# Altium footprint library NXP Semiconductors Cortex-M0.PcbLib: 22 footprints (part 2 of 2)
Each footprint in its own frame and in the unit in brackets; x right, y up, seen from the top. Pads: shape width x height; smd on the part's side, far side on the other; paste and mask are expansions set on the pad; w line width, h text height; cw(c..) or ccw(c..) is an arc to the next point about the centre after c.
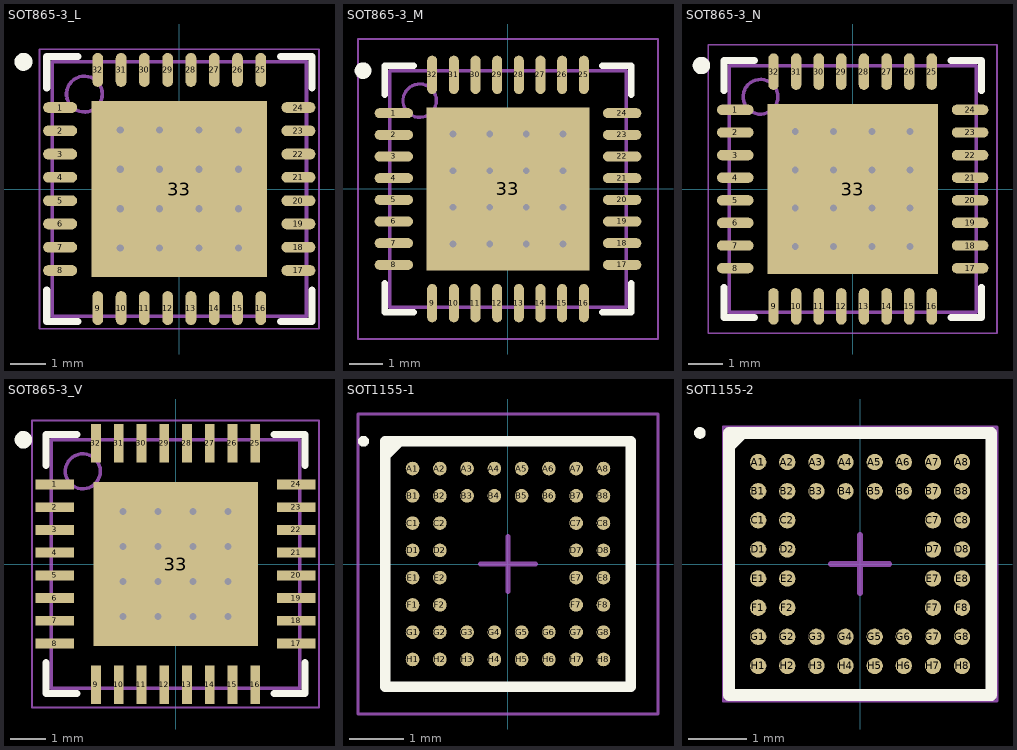
[diagram p1: the footprints below, top view; thin cyan lines are the x and y axes]

## SOT865-3_L [mm] "QFN, 32-Leads, Body 7x7mm, Pitch 0.65mm, Thermal Pad 4.9x4.9mm, IPC High Density"
height 1
pads (33):
  oval 0.95x0.3 smd: 1(-3.325,2.275) 2(-3.325,1.625) 3(-3.325,0.975) 4(-3.325,0.325) 5(-3.325,-0.325) 6(-3.325,-0.975) 7(-3.325,-1.625) 8(-3.325,-2.275) 17(3.325,-2.275) 18(3.325,-1.625) 19(3.325,-0.975) 20(3.325,-0.325) 21(3.325,0.325) 22(3.325,0.975) 23(3.325,1.625) 24(3.325,2.275)
  oval 0.3x0.95 smd: 9(-2.275,-3.325) 10(-1.625,-3.325) 11(-0.975,-3.325) 12(-0.325,-3.325) 13(0.325,-3.325) 14(0.975,-3.325) 15(1.625,-3.325) 16(2.275,-3.325) 25(2.275,3.325) 26(1.625,3.325) 27(0.975,3.325) 28(0.325,3.325) 29(-0.325,3.325) 30(-0.975,3.325) 31(-1.625,3.325) 32(-2.275,3.325)
  rect 4.9x4.9 smd: 33(0,0)
via -1.65,1.65 diameter 0.5 hole 0.2
via -0.55,1.65 diameter 0.5 hole 0.2
via 0.55,1.65 diameter 0.5 hole 0.2
via 1.65,1.65 diameter 0.5 hole 0.2
via -1.65,0.55 diameter 0.5 hole 0.2
via -0.55,0.55 diameter 0.5 hole 0.2
via 0.55,0.55 diameter 0.5 hole 0.2
via 1.65,0.55 diameter 0.5 hole 0.2
via -1.65,-0.55 diameter 0.5 hole 0.2
via -0.55,-0.55 diameter 0.5 hole 0.2
via 0.55,-0.55 diameter 0.5 hole 0.2
via 1.65,-0.55 diameter 0.5 hole 0.2
via -1.65,-1.65 diameter 0.5 hole 0.2
via -0.55,-1.65 diameter 0.5 hole 0.2
via 0.55,-1.65 diameter 0.5 hole 0.2
via 1.65,-1.65 diameter 0.5 hole 0.2
Top Overlay:
  circle w0.25: c-4.35,3.55 r0.125
  lines w0.2: -3.7,-2.825 -3.7,-3.7 -2.825,-3.7 ; -3.7,2.825 -3.7,3.7 -2.825,3.7 ; 2.825,-3.7 3.7,-3.7 3.7,-2.825 ; 2.825,3.7 3.7,3.7 3.7,2.825
Mechanical 13:
  circle w0.1: c-2.65,2.65 r0.5
  lines w0.1: -3.55,-3.55 -3.55,3.55 3.55,3.55 3.55,-3.55 -3.55,-3.55
Mechanical 15:
  lines w0.05: -3.9,-3.9 -3.9,3.9 3.9,3.9 3.9,-3.9 -3.9,-3.9
  lines w0.1: -0.5,0 0.5,0 ; 0,-0.5 0,0.5
3D body: height 1, standoff 0, extent -3.55,-3.55 3.55,3.55

## SOT865-3_M [mm] "QFN, 32-Leads, Body 7x7mm, Pitch 0.65mm, Thermal Pad 4.9x4.9mm, IPC Low Density"
height 1
pads (33):
  oval 1.15x0.3 smd: 1(-3.425,2.275) 2(-3.425,1.625) 3(-3.425,0.975) 4(-3.425,0.325) 5(-3.425,-0.325) 6(-3.425,-0.975) 7(-3.425,-1.625) 8(-3.425,-2.275) 17(3.425,-2.275) 18(3.425,-1.625) 19(3.425,-0.975) 20(3.425,-0.325) 21(3.425,0.325) 22(3.425,0.975) 23(3.425,1.625) 24(3.425,2.275)
  oval 0.3x1.15 smd: 9(-2.275,-3.425) 10(-1.625,-3.425) 11(-0.975,-3.425) 12(-0.325,-3.425) 13(0.325,-3.425) 14(0.975,-3.425) 15(1.625,-3.425) 16(2.275,-3.425) 25(2.275,3.425) 26(1.625,3.425) 27(0.975,3.425) 28(0.325,3.425) 29(-0.325,3.425) 30(-0.975,3.425) 31(-1.625,3.425) 32(-2.275,3.425)
  rect 4.9x4.9 smd: 33(0,0)
via -1.65,1.65 diameter 0.5 hole 0.2
via -0.55,1.65 diameter 0.5 hole 0.2
via 0.55,1.65 diameter 0.5 hole 0.2
via 1.65,1.65 diameter 0.5 hole 0.2
via -1.65,0.55 diameter 0.5 hole 0.2
via -0.55,0.55 diameter 0.5 hole 0.2
via 0.55,0.55 diameter 0.5 hole 0.2
via 1.65,0.55 diameter 0.5 hole 0.2
via -1.65,-0.55 diameter 0.5 hole 0.2
via -0.55,-0.55 diameter 0.5 hole 0.2
via 0.55,-0.55 diameter 0.5 hole 0.2
via 1.65,-0.55 diameter 0.5 hole 0.2
via -1.65,-1.65 diameter 0.5 hole 0.2
via -0.55,-1.65 diameter 0.5 hole 0.2
via 0.55,-1.65 diameter 0.5 hole 0.2
via 1.65,-1.65 diameter 0.5 hole 0.2
Top Overlay:
  circle w0.25: c-4.35,3.55 r0.125
  lines w0.2: -3.7,-2.825 -3.7,-3.7 -2.825,-3.7 ; -3.7,2.825 -3.7,3.7 -2.825,3.7 ; 2.825,-3.7 3.7,-3.7 3.7,-2.825 ; 2.825,3.7 3.7,3.7 3.7,2.825
Mechanical 13:
  circle w0.1: c-2.65,2.65 r0.5
  lines w0.1: -3.55,-3.55 -3.55,3.55 3.55,3.55 3.55,-3.55 -3.55,-3.55
Mechanical 15:
  lines w0.05: -4.5,-4.5 -4.5,4.5 4.5,4.5 4.5,-4.5 -4.5,-4.5
  lines w0.1: -0.5,0 0.5,0 ; 0,-0.5 0,0.5
3D body: height 1, standoff 0, extent -3.55,-3.55 3.55,3.55

## SOT865-3_N [mm] "QFN, 32-Leads, Body 7x7mm, Pitch 0.65mm, Thermal Pad 4.9x4.9mm, IPC Medium Density"
height 1
pads (33):
  oval 1.05x0.3 smd: 1(-3.375,2.275) 2(-3.375,1.625) 3(-3.375,0.975) 4(-3.375,0.325) 5(-3.375,-0.325) 6(-3.375,-0.975) 7(-3.375,-1.625) 8(-3.375,-2.275) 17(3.375,-2.275) 18(3.375,-1.625) 19(3.375,-0.975) 20(3.375,-0.325) 21(3.375,0.325) 22(3.375,0.975) 23(3.375,1.625) 24(3.375,2.275)
  oval 0.3x1.05 smd: 9(-2.275,-3.375) 10(-1.625,-3.375) 11(-0.975,-3.375) 12(-0.325,-3.375) 13(0.325,-3.375) 14(0.975,-3.375) 15(1.625,-3.375) 16(2.275,-3.375) 25(2.275,3.375) 26(1.625,3.375) 27(0.975,3.375) 28(0.325,3.375) 29(-0.325,3.375) 30(-0.975,3.375) 31(-1.625,3.375) 32(-2.275,3.375)
  rect 4.9x4.9 smd: 33(0,0)
via 1.65,-1.65 diameter 0.5 hole 0.2
via 0.55,-1.65 diameter 0.5 hole 0.2
via -0.55,-1.65 diameter 0.5 hole 0.2
via -1.65,-1.65 diameter 0.5 hole 0.2
via 1.65,-0.55 diameter 0.5 hole 0.2
via 0.55,-0.55 diameter 0.5 hole 0.2
via -0.55,-0.55 diameter 0.5 hole 0.2
via -1.65,-0.55 diameter 0.5 hole 0.2
via 1.65,0.55 diameter 0.5 hole 0.2
via 0.55,0.55 diameter 0.5 hole 0.2
via -0.55,0.55 diameter 0.5 hole 0.2
via -1.65,0.55 diameter 0.5 hole 0.2
via 1.65,1.65 diameter 0.5 hole 0.2
via 0.55,1.65 diameter 0.5 hole 0.2
via -0.55,1.65 diameter 0.5 hole 0.2
via -1.65,1.65 diameter 0.5 hole 0.2
Top Overlay:
  circle w0.25: c-4.35,3.55 r0.125
  lines w0.2: -3.7,-2.825 -3.7,-3.7 -2.825,-3.7 ; -3.7,2.825 -3.7,3.7 -2.825,3.7 ; 2.825,-3.7 3.7,-3.7 3.7,-2.825 ; 2.825,3.7 3.7,3.7 3.7,2.825
Mechanical 13:
  circle w0.1: c-2.65,2.65 r0.5
  lines w0.1: -3.55,-3.55 3.55,-3.55 3.55,3.55 -3.55,3.55 -3.55,-3.55
Mechanical 15:
  lines w0.05: -4.15,-4.15 4.15,-4.15 4.15,4.15 -4.15,4.15 -4.15,-4.15
  lines w0.1: -0.5,0 0.5,0 ; 0,-0.5 0,0.5
3D body: height 1, standoff 0, extent -3.55,-3.55 3.55,3.55

## SOT865-3_V [mm] "QFN, 32-Leads, Body 7x7mm, Pitch 0.65mm, Thermal Pad 4.7x4.7mm, NXP Recommended"
height 1
pads (33):
  rect 1.1x0.28 smd: 1(-3.45,2.275) 2(-3.45,1.625) 3(-3.45,0.975) 4(-3.45,0.325) 5(-3.45,-0.325) 6(-3.45,-0.975) 7(-3.45,-1.625) 8(-3.45,-2.275) 17(3.45,-2.275) 18(3.45,-1.625) 19(3.45,-0.975) 20(3.45,-0.325) 21(3.45,0.325) 22(3.45,0.975) 23(3.45,1.625) 24(3.45,2.275)
  rect 0.28x1.1 smd: 9(-2.275,-3.45) 10(-1.625,-3.45) 11(-0.975,-3.45) 12(-0.325,-3.45) 13(0.325,-3.45) 14(0.975,-3.45) 15(1.625,-3.45) 16(2.275,-3.45) 25(2.275,3.45) 26(1.625,3.45) 27(0.975,3.45) 28(0.325,3.45) 29(-0.325,3.45) 30(-0.975,3.45) 31(-1.625,3.45) 32(-2.275,3.45)
  rect 4.7x4.7 smd paste-2.35: 33(0,0)
via -1.5,1.5 diameter 0.5 hole 0.2
via -0.5,1.5 diameter 0.5 hole 0.2
via 0.5,1.5 diameter 0.5 hole 0.2
via 1.5,1.5 diameter 0.5 hole 0.2
via -1.5,0.5 diameter 0.5 hole 0.2
via -0.5,0.5 diameter 0.5 hole 0.2
via 0.5,0.5 diameter 0.5 hole 0.2
via 1.5,0.5 diameter 0.5 hole 0.2
via -1.5,-0.5 diameter 0.5 hole 0.2
via -0.5,-0.5 diameter 0.5 hole 0.2
via 0.5,-0.5 diameter 0.5 hole 0.2
via 1.5,-0.5 diameter 0.5 hole 0.2
via -1.5,-1.5 diameter 0.5 hole 0.2
via -0.5,-1.5 diameter 0.5 hole 0.2
via 0.5,-1.5 diameter 0.5 hole 0.2
via 1.5,-1.5 diameter 0.5 hole 0.2
Top Overlay:
  circle w0.25: c-4.35,3.55 r0.125
  lines w0.2: -3.7,-2.815 -3.7,-3.7 -2.815,-3.7 ; -3.7,2.815 -3.7,3.7 -2.815,3.7 ; 2.815,-3.7 3.7,-3.7 3.7,-2.815 ; 2.815,3.7 3.7,3.7 3.7,2.815
Top Paste:
  region: -0.65,0.35 -1.35,0.35 -1.35,-0.35 -0.65,-0.35
  rectangle: -0.35,-0.35 0.35,0.35
  rectangle: -0.35,0.65 0.35,1.35
  region: -0.65,1.35 -1.35,1.35 -1.35,0.65 -0.65,0.65
  rectangle: 0.65,0.65 1.35,1.35
  rectangle: 0.65,-0.35 1.35,0.35
  rectangle: -0.35,-1.35 0.35,-0.65
  rectangle: -1.35,-1.35 -0.65,-0.65
  rectangle: 0.65,-1.35 1.35,-0.65
Mechanical 13:
  circle w0.1: c-2.65,2.65 r0.5
  lines w0.1: -3.55,-3.55 -3.55,3.55 3.55,3.55 3.55,-3.55 -3.55,-3.55
Mechanical 15:
  lines w0.05: -4.1,-4.1 -4.1,4.1 4.1,4.1 4.1,-4.1 -4.1,-4.1
  lines w0.1: -0.5,0 0.5,0 ; 0,-0.5 0,0.5
3D body: height 1, standoff 0, extent -3.55,-3.55 3.55,3.55

## SOT1155-1 [mm] "BGA, 48-Leads, Body 4.5x4.5mm, Pitch 0.5mm"
height 1.1
pads (48):
  round 0.25 smd: A1(-1.75,1.75) A2(-1.25,1.75) A3(-0.75,1.75) A4(-0.25,1.75) A5(0.25,1.75) A6(0.75,1.75) A7(1.25,1.75) A8(1.75,1.75) B1(-1.75,1.25) B2(-1.25,1.25) B3(-0.75,1.25) B4(-0.25,1.25) B5(0.25,1.25) B6(0.75,1.25) B7(1.25,1.25) B8(1.75,1.25) C1(-1.75,0.75) C2(-1.25,0.75) C7(1.25,0.75) C8(1.75,0.75) D1(-1.75,0.25) D2(-1.25,0.25) D7(1.25,0.25) D8(1.75,0.25) E1(-1.75,-0.25) E2(-1.25,-0.25) E7(1.25,-0.25) E8(1.75,-0.25) F1(-1.75,-0.75) F2(-1.25,-0.75) F7(1.25,-0.75) F8(1.75,-0.75) G1(-1.75,-1.25) G2(-1.25,-1.25) G3(-0.75,-1.25) G4(-0.25,-1.25) G5(0.25,-1.25) G6(0.75,-1.25) G7(1.25,-1.25) G8(1.75,-1.25) H1(-1.75,-1.75) H2(-1.25,-1.75) H3(-0.75,-1.75) H4(-0.25,-1.75) H5(0.25,-1.75) H6(0.75,-1.75) H7(1.25,-1.75) H8(1.75,-1.75)
Top Overlay:
  circle w0.1: c-2.65,2.25 r0.05
  region: -1.992,2.25 -2.25,1.992 -2.25,2.25
  lines w0.2: -2.25,1.992 -1.992,2.25 ; -2.25,-2.25 -2.25,2.25 2.25,2.25 2.25,-2.25 -2.25,-2.25
Mechanical 13:
  lines w0.1: -2.25,-2.25 -2.25,2.25 2.25,2.25 2.25,-2.25 -2.25,-2.25
Mechanical 15:
  lines w0.05: -2.75,-2.75 -2.75,2.75 2.75,2.75 2.75,-2.75 -2.75,-2.75
  lines w0.1: -0.5,0 0.5,0 ; 0,-0.5 0,0.5
3D body: height 1.1, standoff 0, extent -2.25,-2.25 2.25,2.25

## SOT1155-2 [mm] "BGA, 64-Leads, Body 4.5x4.5mm, Pitch 0.5mm, NXP Recommended Pads"
height 1.1
pads (48):
  round 0.28 smd: A1(-1.75,1.75) A2(-1.25,1.75) A3(-0.75,1.75) A4(-0.25,1.75) A5(0.25,1.75) A6(0.75,1.75) A7(1.25,1.75) A8(1.75,1.75) B1(-1.75,1.25) B2(-1.25,1.25) B3(-0.75,1.25) B4(-0.25,1.25) B5(0.25,1.25) B6(0.75,1.25) B7(1.25,1.25) B8(1.75,1.25) C1(-1.75,0.75) C2(-1.25,0.75) C7(1.25,0.75) C8(1.75,0.75) D1(-1.75,0.25) D2(-1.25,0.25) D7(1.25,0.25) D8(1.75,0.25) E1(-1.75,-0.25) E2(-1.25,-0.25) E7(1.25,-0.25) E8(1.75,-0.25) F1(-1.75,-0.75) F2(-1.25,-0.75) F7(1.25,-0.75) F8(1.75,-0.75) G1(-1.75,-1.25) G2(-1.25,-1.25) G3(-0.75,-1.25) G4(-0.25,-1.25) G5(0.25,-1.25) G6(0.75,-1.25) G7(1.25,-1.25) G8(1.75,-1.25) H1(-1.75,-1.75) H2(-1.25,-1.75) H3(-0.75,-1.75) H4(-0.25,-1.75) H5(0.25,-1.75) H6(0.75,-1.75) H7(1.25,-1.75) H8(1.75,-1.75)
Top Overlay:
  circle w0.1: c-2.75,2.25 r0.05
  region: -2.014,2.25 -2.25,2.014 -2.25,2.25
  lines w0.2: -2.25,2.014 -2.014,2.25 ; -2.25,-2.25 -2.25,2.25 2.25,2.25 2.25,-2.25 -2.25,-2.25
Mechanical 13:
  lines w0.1: -2.25,-2.25 -2.25,2.25 2.25,2.25 2.25,-2.25 -2.25,-2.25
Mechanical 15:
  lines w0.05: -2.35,-2.35 -2.35,2.35 2.35,2.35 2.35,-2.35 -2.35,-2.35
  lines w0.1: -0.5,0 0.5,0 ; 0,-0.5 0,0.5
3D body: height 1.1, standoff 0.2, extent -2.25,-2.25 2.25,2.25